# Altium footprint library Relay 5V TH.PcbLib: 1 footprints
Each footprint in its own frame and in the unit in brackets; x right, y up, seen from the top. Pads: shape width x height; smd on the part's side, far side on the other; paste and mask are expansions set on the pad; w line width, h text height; cw(c..) or ccw(c..) is an arc to the next point about the centre after c.
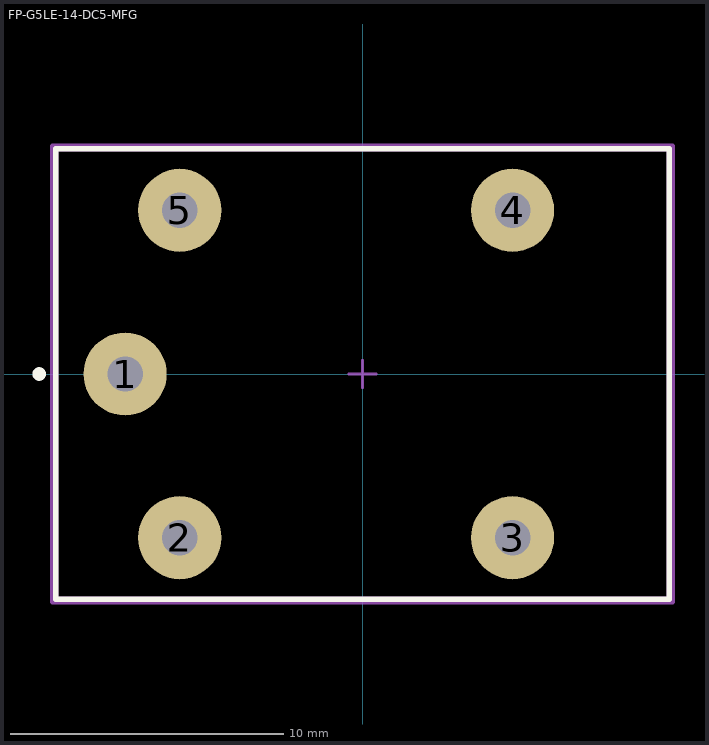
[diagram p0: the footprint, top view; thin cyan lines are the x and y axes]

## FP-G5LE-14-DC5-MFG [mm]
pads (5):
  round 3.048 hole 1.3 paste-2539.97 mask+0: 1(-8.7,0) 2(-6.7,-6) 3(5.5,-6) 4(5.5,6) 5(-6.7,6)
Top Overlay:
  circle w0.25: c-11.85,0 r0.125
  lines w0.2: -11.25,-8.25 11.25,-8.25 11.25,8.25 -11.25,8.25 -11.25,-8.25
Top Assembly:
  lines w0.2: -11.35,-8.35 11.35,-8.35 11.35,8.35 -11.35,8.35 -11.35,-8.35
  text ".Designator" at 0,0.188 h1
Top 3D Body:
  lines w0.2: -11.25,-8.25 11.25,-8.25 11.25,8.25 -11.25,8.25 -11.25,-8.25
Top Courtyard:
  lines w0.2: -11.35,-8.35 11.35,-8.35 11.35,8.35 -11.35,8.35 -11.35,-8.35
Top Component Center:
  lines w0.1: -0.5,0 0.5,0 ; 0,-0.5 0,0.5
3D body "Relay_Omron_G5LE-14-DC5_eec.STEP": height 0.25, standoff 0, extent -11.35,-8.35 11.35,8.35